# Altium footprint library GA3416.PcbLib: 1 footprints
Each footprint in its own frame and in the unit in brackets; x right, y up, seen from the top. Pads: shape width x height; smd on the part's side, far side on the other; paste and mask are expansions set on the pad; w line width, h text height; cw(c..) or ccw(c..) is an arc to the next point about the centre after c.
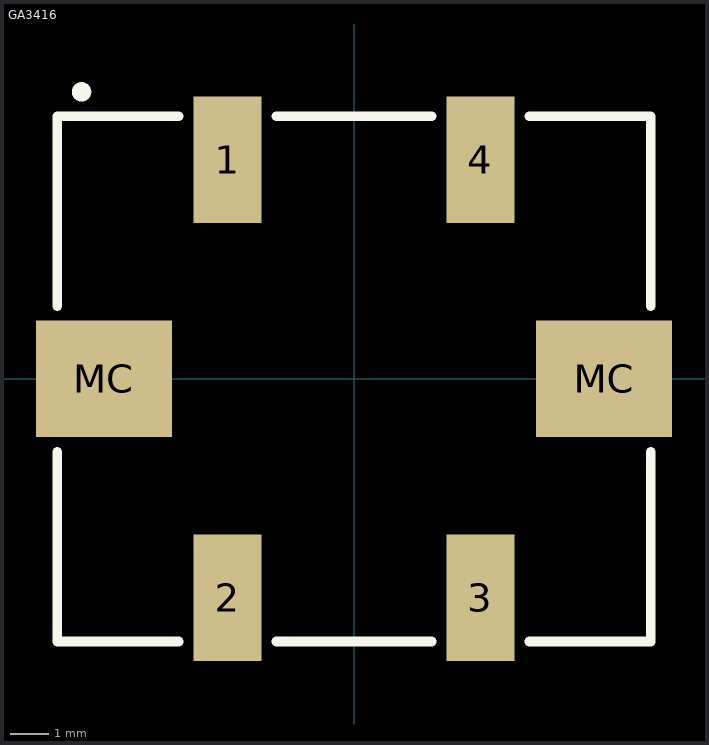
[diagram p0: the footprint, top view; thin cyan lines are the x and y axes]

## GA3416 [mil]
pads (6):
  rect 70x130 smd: 1(-130,225) 2(-130,-225) 3(130,-225) 4(130,225)
  rect 140x120 smd: MC(-257,0) MC(257,0)
Top Overlay:
  circle w10: c-280,295 r5
  lines w10: -305,-75 -305,-270 -180,-270 ; -305,75 -305,270 -180,270 ; -80,-270 80,-270 ; -80,270 80,270 ; 180,-270 305,-270 305,-75 ; 180,270 305,270 305,75
3D body: height 520, standoff 0, extent -305,-270 305,270